# EAGLE library part TRM-XXX-LT (library linx)
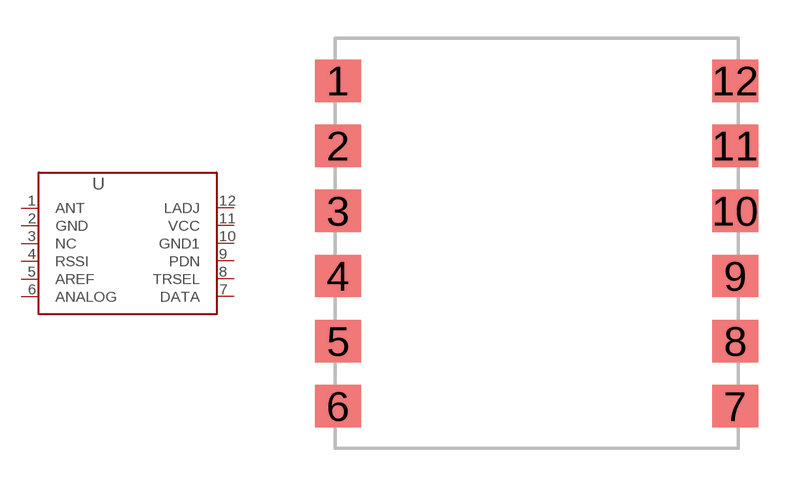
[diagram p4: symbol with the pads of TRM-XXX-LT; footprint TRM-XXX-LT]

Designator prefix -

## TRM-XXX-LT  [TRM-XXX-LT]
1  ANT  out
2  GND  pwr
3  NC
4  RSSI  out
5  AREF
6  ANALOG
7  DATA
8  TRSEL
9  PDN
10  GND1
11  VCC
12  LADJ

## Footprint TRM-XXX-LT (pad centres in mm)
smd 1.778 x 1.651: 1 -7.747,6.35; 2 -7.747,3.81; 3 -7.747,1.27; 4 -7.747,-1.27; 5 -7.747,-3.81; 6 -7.747,-6.35; 7 7.747,-6.35; 8 7.747,-3.81; 9 7.747,-1.27; 10 7.747,1.27; 11 7.747,3.81; 12 7.747,6.35